# Altium footprint library HSOIC-8(4.0X5.0).PcbLib: 1 footprints
Each footprint in its own frame and in the unit in brackets; x right, y up, seen from the top. Pads: shape width x height; smd on the part's side, far side on the other; paste and mask are expansions set on the pad; w line width, h text height; cw(c..) or ccw(c..) is an arc to the next point about the centre after c.
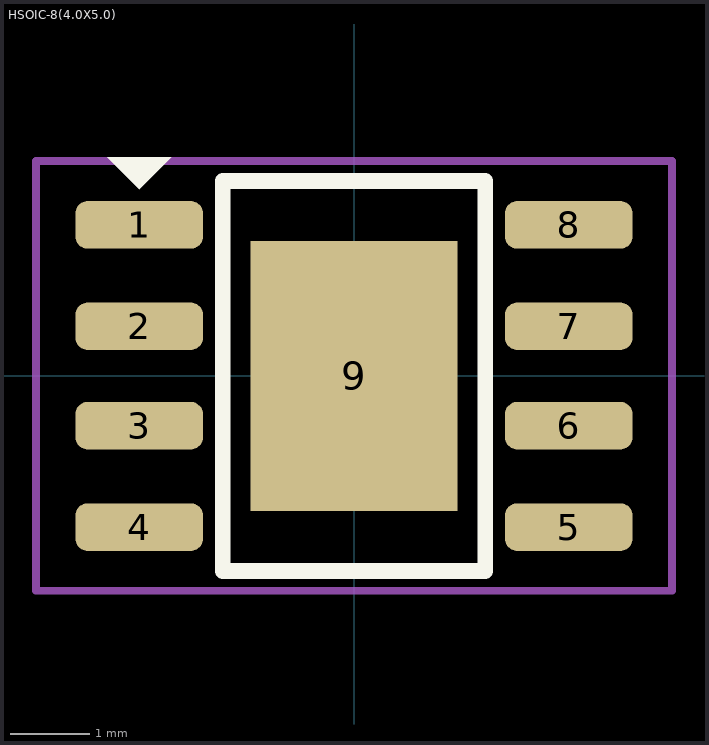
[diagram p0: the footprint, top view; thin cyan lines are the x and y axes]

## HSOIC-8(4.0X5.0) [mm]
pads (9):
  rrect50% 1.6x0.6 smd: 1(-2.7,1.9) 2(-2.7,0.625) 3(-2.7,-0.625) 4(-2.7,-1.9) 5(2.7,-1.9) 6(2.7,-0.625) 7(2.7,0.625) 8(2.7,1.9)
  rect 2.6x3.4 smd: 9(0,0)
Top Overlay:
  region: -3.1,2.75 -2.3,2.75 -2.7,2.35
  lines w0.2: -1.65,-2.45 -1.65,2.45 1.65,2.45 1.65,-2.45 -1.65,-2.45
Top Courtyard:
  lines w0.1: -4,-2.7 -4,2.7 4,2.7 4,-2.7 -4,-2.7
3D body "TCAN1042VDQ1.STEP": height 1.75, standoff 0, extent -2.997,-2.446 2.997,2.456